# Altium footprint library PcbLib1.PcbLib: 2 footprints
Each footprint in its own frame and in the unit in brackets; x right, y up, seen from the top. Pads: shape width x height; smd on the part's side, far side on the other; paste and mask are expansions set on the pad; w line width, h text height; cw(c..) or ccw(c..) is an arc to the next point about the centre after c.
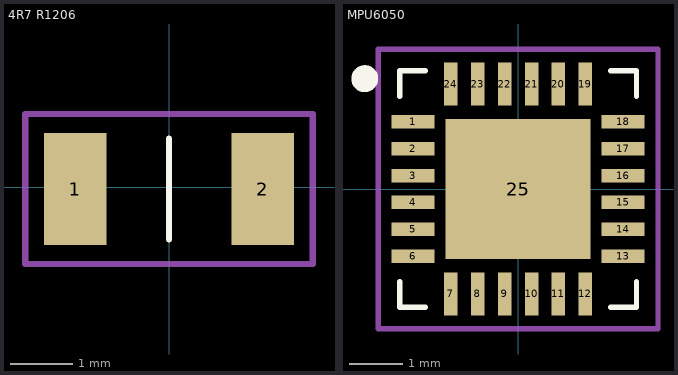
[diagram p0: the footprints below, top view; thin cyan lines are the x and y axes]

## 4R7 R1206 [mm]
pads (2):
  rect 1x1.8 smd mask+0.05: 1(-1.5,-0.025) 2(1.5,-0.025)
Top Overlay:
  lines w0.1: 0,-0.83 0,0.78
Mechanical 3:
  lines w0.1: -2.3,-1.225 2.3,-1.225 2.3,1.175 -2.3,1.175 -2.3,-1.225
3D body "1206RES.step": height 0.55, standoff 0, extent -1.6,-0.83 1.6,0.78

## MPU6050 [mm]
pads (25):
  rect 0.8x0.25 smd mask+0.05: 1(-1.95,1.25) 2(-1.95,0.75) 3(-1.95,0.25) 4(-1.95,-0.25) 5(-1.95,-0.75) 6(-1.95,-1.25) 13(1.95,-1.25) 14(1.95,-0.75) 15(1.95,-0.25) 16(1.95,0.25) 17(1.95,0.75) 18(1.95,1.25)
  rect 0.25x0.8 smd mask+0.05: 7(-1.25,-1.95) 8(-0.75,-1.95) 9(-0.25,-1.95) 10(0.25,-1.95) 11(0.75,-1.95) 12(1.25,-1.95) 19(1.25,1.95) 20(0.75,1.95) 21(0.25,1.95) 22(-0.25,1.95) 23(-0.75,1.95) 24(-1.25,1.95)
  rect 2.7x2.6 smd mask+0.05: 25(0,0)
Top Overlay:
  circle w0.25: c-2.85,2.05 r0.125
  lines w0.1: -2.2,-1.725 -2.2,-2.2 -1.725,-2.2 ; -2.2,1.725 -2.2,2.2 -1.725,2.2 ; 1.725,-2.2 2.2,-2.2 2.2,-1.725 ; 1.725,2.2 2.2,2.2 2.2,1.725
Mechanical 3:
  lines w0.1: -0.5,0 0.5,0 ; 0,-0.5 0,0.5 ; -2.6,-2.6 -2.6,2.6 2.6,2.6 2.6,-2.6 -2.6,-2.6
3D body "QFN50P400X400X95_HS-25N.step": height 0.95, standoff 0, extent -2.07,-2.07 2.07,2.07